# Altium schematic symbol library Schlib1.SchLib: 7 symbols
Pins are listed as number, name and electrical type; pins without a type are passive.

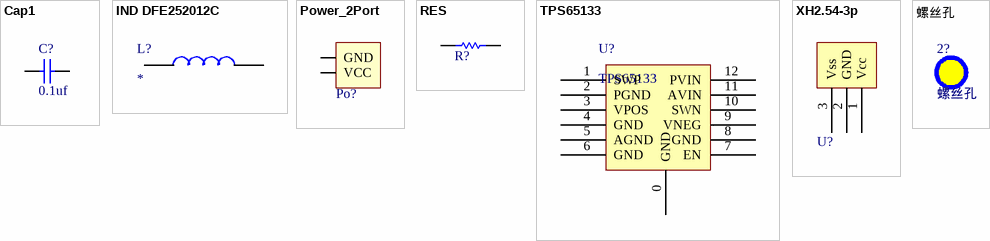
[diagram p0: symbols Cap1 to 螺丝孔]

## Cap1
designator C?  值: 0.1uf
footprint 0805
footprint 0805
footprint 安规电容
pins: 1, 2

## IND DFE252012C
designator L?
footprint 2520
pins: 1, 2

## Power_2Port
designator Po?  (value not drawn)
footprint Power_S_2Port
pins: 1 VCC, 2 GND

## RES
designator R?  (value not drawn)
值: 1k
footprint 0805
pins: 1, 2

## TPS65133
designator U?
footprint QFN-12 3X3
pins: 0 GND, 1 SWP, 2 PGND, 3 VPOS, 4 GND, 5 AGND, 6 GND, 7 EN, 8 GND, 9 VNEG, 10 SWN, 11 AVIN, 12 PVIN

## XH2.54-3p
designator U?  (value not drawn)
footprint XH2.54-3p
footprint XH2.54-3p
pins: 1 Vcc, 2 GND, 3 Vss

## 螺丝孔
designator 2?
footprint 固定过孔